# Altium footprint library Modelo_Footprint.PcbLib: 25 footprints (part 2 of 2)
Each footprint in its own frame and in the unit in brackets; x right, y up, seen from the top. Pads: shape width x height; smd on the part's side, far side on the other; paste and mask are expansions set on the pad; w line width, h text height; cw(c..) or ccw(c..) is an arc to the next point about the centre after c.
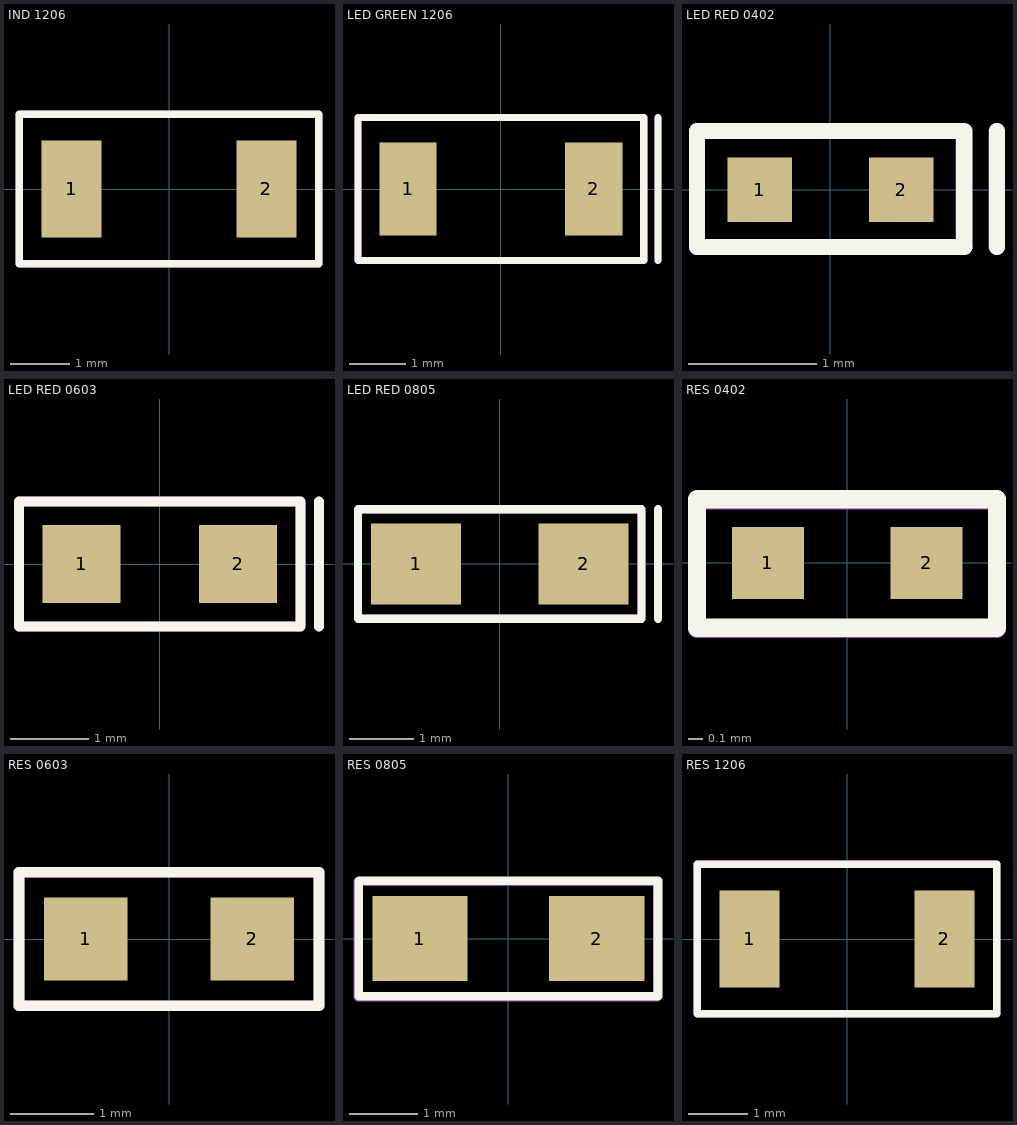
[diagram p1: the footprints below, top view; thin cyan lines are the x and y axes]

## IND 1206 [mm] "IND 1206"
height 1
pads (2):
  rect 1.02x1.65 smd mask+0.1: 1(-1.65,0) 2(1.65,0)
Top Overlay:
  lines w0.127: -2.54,-1.27 2.54,-1.27 2.54,1.27 -2.54,1.27 -2.54,-1.27
Top Assembly:
  lines w0.127: -2.54,-1.27 2.54,-1.27 2.54,1.27 -2.54,1.27 -2.54,-1.27
  text "'.Designator'" at -2.311,-0.356 h1.27
3D body "RESISTOR 1206.step": height 0.57, standoff 0.01, extent -1.6,-0.83 1.6,0.83

## LED GREEN 1206 [mm] "LED GREEN 1206"
height 1
pads (2):
  rect 1.02x1.65 smd mask+0.1: 1(-1.65,0) 2(1.65,0)
Top Overlay:
  lines w0.127: 2.794,-1.27 2.794,1.27 ; -2.54,-1.27 -2.54,1.27 2.54,1.27 2.54,-1.27 -2.54,-1.27
Top Assembly:
  lines w0.127: 2.794,-1.27 2.794,1.27 ; -2.54,-1.27 -2.54,1.27 2.54,1.27 2.54,-1.27 -2.54,-1.27
  text "'.Designator'" at -2.311,-0.356 h1.27
3D body "LED_GREEN_1206.STEP": height 1.11, standoff -0.4, extent -1.6,-0.787 1.6,0.813

## LED RED 0402 [mm] "LED VERMELHO 0402"
height 1
pads (2):
  rect 0.5x0.5 smd mask+0.1: 1(-0.55,0) 2(0.55,0)
Top Overlay:
  lines w0.127: -1.038,0.456 -1.038,-0.444 1.041,-0.444 1.041,0.457 -1.016,0.457 ; 1.295,-0.444 1.295,0.457
Top Assembly:
  lines w0.127: -1.038,0.456 -1.038,-0.444 1.042,-0.444 ; -1.016,0.457 1.036,0.457 1.038,0.456 1.038,-0.444 ; 1.291,-0.444 1.291,0.456
  text "'.Designator'" at -1.016,-0.33 h1.27
3D body "LED_RED_0402.STEP": height 0.21, standoff 0.01, extent -0.5,-0.3 0.5,0.3
3D body: height 6, standoff 1, extent 0.635,-1.27 0.635,-1.27

## LED RED 0603 [mm] "LED VERMELHO 0603"
height 1
pads (2):
  rect 1x1 smd mask+0.1: 1(-1,0) 2(1,0)
Top Overlay:
  lines w0.127: 2.035,-0.8 2.035,0.8 ; -1.8,-0.8 1.8,-0.8 1.8,0.8 -1.8,0.8 -1.8,-0.8
Top Assembly:
  lines w0.127: 2.035,-0.8 2.035,0.8 ; -1.8,-0.8 -1.8,0.8 1.8,0.8 1.8,-0.8 -1.8,-0.8
  text "'.Designator'" at -1.676,-0.178 h1.27
3D body "LED_RED_0603.STEP": height 0.91, standoff 0.01, extent -0.85,-0.45 0.85,0.45
3D body: height 6, standoff 1, extent 0.635,-1.27 0.635,-1.27

## LED RED 0805 [mm] "LED VERMELHO 0805"
height 1
pads (2):
  rect 1.4x1.25 smd mask+0.1: 1(-1.3,0) 2(1.3,0)
Top Overlay:
  lines w0.127: 2.454,-0.85 2.454,0.85 ; -2.2,-0.85 2.2,-0.85 2.2,0.85 -2.2,0.85 -2.2,-0.85
Top Assembly:
  lines w0.127: 2.454,-0.85 2.454,0.85 ; -2.2,-0.85 2.2,-0.85 2.2,0.85 -2.2,0.85 -2.2,-0.85
  text "'.Designator'" at -1.676,-0.178 h1.27
3D body "LED_RED_0805.STEP": height 1.12, standoff 0.01, extent -1,-0.625 1,0.625
3D body: height 6, standoff 1, extent -2.2,-0.85 -2.2,-0.85

## RES 0402 [mm] "RESISTOR 0402"
height 1
pads (2):
  rect 0.5x0.5 smd mask+0.102: 1(-0.55,0) 2(0.55,0)
Top Overlay:
  lines w0.127: -1.041,-0.45 1.039,-0.45 1.039,0.443 -1.041,0.443 -1.041,-0.45
Top Assembly:
  lines w0.127: -1.041,-0.457 1.039,-0.457 1.039,0.436 -1.041,0.436 -1.041,-0.457
  text "'.Designator'" at -1.041,-0.457 h1.27
3D body "RESISTOR 0402.step": height 0.36, standoff 0.01, extent -0.5,-0.25 0.5,0.25

## RES 0603 [mm] "RESISTOR 0603"
height 1
pads (2):
  rect 1x1 smd mask+0.1: 1(-1,0) 2(1,0)
Top Overlay:
  lines w0.127: -1.8,-0.8 -1.8,0.8 1.8,0.8 1.8,-0.8 -1.8,-0.8
Top Assembly:
  lines w0.127: -1.8,-0.8 1.8,-0.8 1.8,0.8 -1.8,0.8 -1.8,-0.8
  text "'.Designator'" at -1.524,-0.254 h1.27
3D body "RESISTOR 0603.stp": height 0.46, standoff 0.01, extent -0.724,-0.418 0.826,0.432

## RES 0805 [mm] "RESISTOR 0805"
height 1
pads (2):
  rect 1.4x1.25 smd mask+0.1: 1(-1.3,0) 2(1.3,0)
Top Overlay:
  lines w0.127: -2.2,-0.85 -2.2,0.85 2.2,0.85 2.2,-0.85 -2.2,-0.85
Top Assembly:
  lines w0.127: -2.21,-0.864 2.19,-0.864 2.19,0.836 -2.21,0.836 -2.21,-0.864
  text "'.Designator'" at -1.524,-0.254 h1.27
3D body "RESISTOR 0805b.step": height 0.77, standoff 0.01, extent -1.15,-0.675 1.15,0.675

## RES 1206 [mm] "RESISTOR 1206"
height 1
pads (2):
  rect 1.02x1.65 smd mask+0.1: 1(-1.65,0) 2(1.65,0)
Top Overlay:
  lines w0.127: -2.54,-1.27 -2.54,1.27 2.54,1.27 2.54,-1.27 -2.54,-1.27
Top Assembly:
  lines w0.127: -2.54,-1.27 -2.54,1.27 2.54,1.27 2.54,-1.27 -2.54,-1.27
  text "'.Designator'" at -2.311,-0.356 h1.27
3D body "RESISTOR 1206.step": height 0.57, standoff 0.01, extent -1.6,-0.83 1.6,0.83